# Altium schematic symbol library 74LCX125M Quad Buffer.SchLib: 1 symbol
Pins are listed as number, name and electrical type; pins without a type are passive.

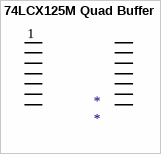
[diagram p0: symbol 74LCX125M Quad Buffer]

## 74LCX125M Quad Buffer
designator *
Low Voltage Quad Buffer with 5V Tolerant Inputs and Outputs
pins: 1, 2, 3, 4, 5, 6, 7, 8, 9, 10, 11, 12, 13, 14